# Altium footprint library ReleLib.PcbLib: 1 footprints
Each footprint in its own frame and in the unit in brackets; x right, y up, seen from the top. Pads: shape width x height; smd on the part's side, far side on the other; paste and mask are expansions set on the pad; w line width, h text height; cw(c..) or ccw(c..) is an arc to the next point about the centre after c.
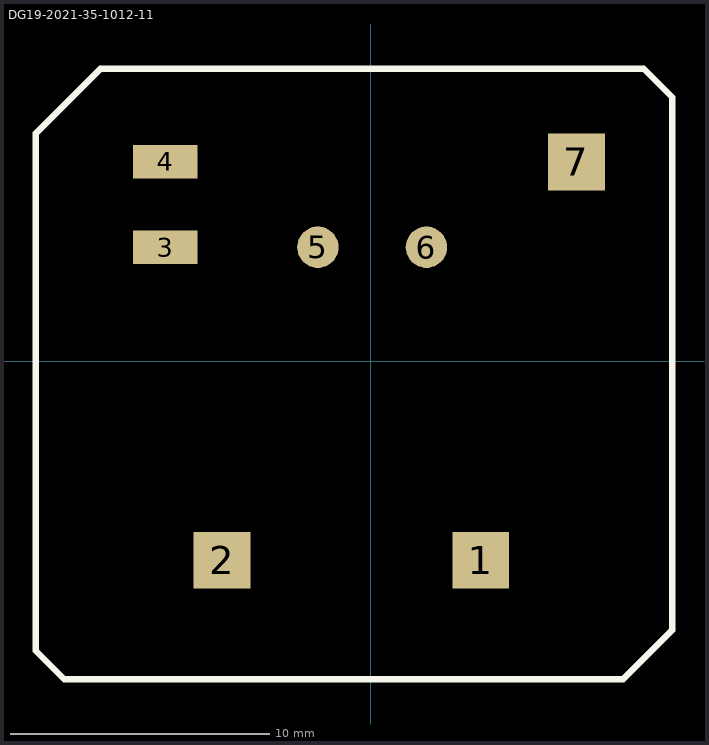
[diagram p0: the footprint, top view; thin cyan lines are the x and y axes]

## DG19-2021-35-1012-11 [mm]
pads (7):
  rect 2.2x2.2 all layers, no hole: 1(4.25,-7.7) 2(-5.75,-7.7) 7(7.95,7.7)
  rect 2.5x1.3 all layers, no hole: 3(-7.95,4.4) 4(-7.95,7.7)
  round 1.6 all layers, no hole: 5(-2.05,4.4) 6(2.15,4.4)
Top Overlay:
  lines w0.254: -9.25,11.3 10.15,11.3 10.55,11.3 11.65,10.2 11.65,-10.4 9.75,-12.3 -11.85,-12.3 -12.95,-11.2 -12.95,8.8 -10.45,11.3 -8.75,11.3